# Altium integrated library Renesas Diode.IntLib: 1609 symbols (part 25 of 31)
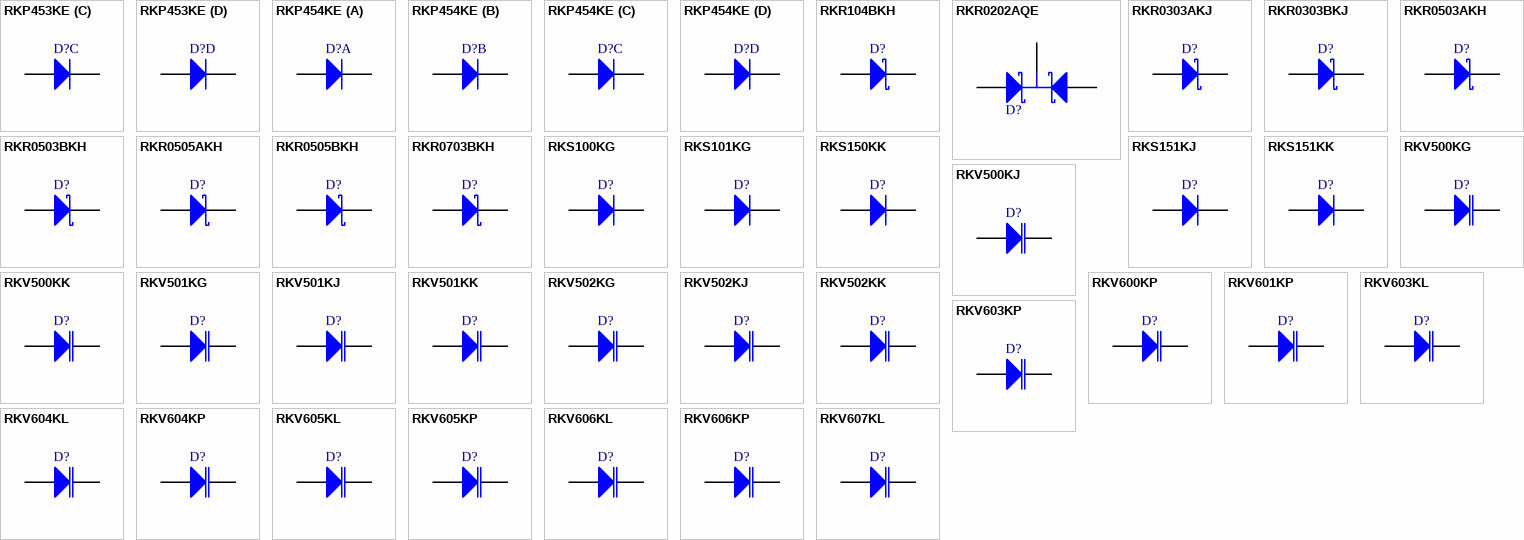
[diagram p69: symbols RKP453KE to RKV607KL]

## RKS100KG
designator D?
Silicon Epitaxial Planar Diode for High Speed Switching; Published: 12-Feb-2010; DatasheetVersion: Rev.1.00, Jul-2008; PackageVersion: Sep-2005; PackageReference: PTSP0002ZA-A; Publisher: Altium Limited; PackageDescription: 2-Pin SC-76 Package, 1.7 x 1.3 mm Body; Code_JEITA: SC-76A; ComponentLink1Description: Manufacturer Link; ComponentLink1URL: http://sg.renesas.com/fmwk.jsp?cnt=diode_landing.jsp&fp=/products/discrete/diodes/; ComponentLink2Description: Datasheet; ComponentLink2URL: http://documentation.renesas.com/eng/products/diode/rej03g1698_rks100kgds.pdf; ComponentLink3Description: Packaging Specification; ComponentLink3URL: http://sg.renesas.com/media/products/common_info/package/pdf/diode/code/ptsp0002za_a.pdf
footprint PTSP0002ZA-A (SC-76; 2 Leads; Body 1.7x1.3mm, Renesas Recommended)
signal-integrity model RKS100KG
pins: 1 K, 2 A

## RKS101KG
designator D?
Silicon Epitaxial Planar Diode for High Voltage Switching; Published: 12-Feb-2010; DatasheetVersion: Rev.1.00, Nov-2008; PackageVersion: Sep-2005; PackageReference: PTSP0002ZA-A; Publisher: Altium Limited; PackageDescription: 2-Pin SC-76 Package, 1.7 x 1.3 mm Body; Code_JEITA: SC-76A; ComponentLink1Description: Manufacturer Link; ComponentLink1URL: http://sg.renesas.com/fmwk.jsp?cnt=diode_landing.jsp&fp=/products/discrete/diodes/; ComponentLink2Description: Datasheet; ComponentLink2URL: http://documentation.renesas.com/eng/products/diode/rej03g1758_rks101kgds.pdf; ComponentLink3Description: Packaging Specification; ComponentLink3URL: http://sg.renesas.com/media/products/common_info/package/pdf/diode/code/ptsp0002za_a.pdf
footprint PTSP0002ZA-A (SC-76; 2 Leads; Body 1.7x1.3mm, Renesas Recommended)
signal-integrity model RKS101KG
pins: 1 K, 2 A

## RKS150KK
designator D?
Silicon Epitaxial Planar Diode for UHF/VHF tuner Band Switch; Published: 12-Feb-2010; DatasheetVersion: Rev.1.00, Nov-2005; PackageVersion: Oct-2006; PackageReference: PUSF0002ZB-A; Publisher: Altium Limited; PackageDescription: 2-Pin Plastic Small Outline Diode, Flat Leads, Body 0.6 x 1.0 mm (SFP); ComponentLink1Description: Manufacturer Link; ComponentLink1URL: http://sg.renesas.com/fmwk.jsp?cnt=diode_landing.jsp&fp=/products/discrete/diodes/; ComponentLink2Description: Datasheet; ComponentLink2URL: http://documentation.renesas.com/eng/products/logic/rej03g1292_rks150kk.pdf; ComponentLink3Description: Packaging Specification; ComponentLink3URL: http://sg.renesas.com/media/products/common_info/package/pdf/diode/code/pusf0002zb_a.pdf
footprint PUSF0002ZB-A (SOD, 2-Flat Leads, Body 0.6x1.0x0.55mm, Renesas Recommended)
signal-integrity model RKS150KK
pins: 1 K, 2 A

## RKS151KJ
designator D?
Silicon Epitaxial Planar Diode for UHF/VHF tuner Band Switch; Published: 12-Feb-2010; DatasheetVersion: Rev.1.00, Nov-2005; PackageVersion: Oct-2006; PackageReference: PWSF0002ZA-A; Publisher: Altium Limited; PackageDescription: 2-Pin Plastic Small Outline Diode, Flat Leads, Body 0.8 x 1.2 mm (UFP); Code_JEITA: SC-79; ComponentLink1Description: Manufacturer Link; ComponentLink1URL: http://sg.renesas.com/fmwk.jsp?cnt=diode_landing.jsp&fp=/products/discrete/diodes/; ComponentLink2Description: Datasheet; ComponentLink2URL: http://documentation.renesas.com/eng/products/logic/rej03g1296_rks151kj.pdf; ComponentLink3Description: Packaging Specification; ComponentLink3URL: http://sg.renesas.com/media/products/common_info/package/pdf/diode/code/pwsf0002za_a.pdf
footprint PWSF0002ZA-A (SOD, 2-Flat Leads, Body 0.8x1.2x0.7mm, Renesas Recommended)
signal-integrity model RKS151KJ
pins: 1 K, 2 A

## RKS151KK
designator D?
Silicon Epitaxial Planar Diode for UHF/VHF tuner Band Switch; Published: 12-Feb-2010; DatasheetVersion: Rev.1.00, Nov-2005; PackageVersion: Oct-2006; PackageReference: PUSF0002ZB-A; Publisher: Altium Limited; PackageDescription: 2-Pin Plastic Small Outline Diode, Flat Leads, Body 0.6 x 1.0 mm (SFP); ComponentLink1Description: Manufacturer Link; ComponentLink1URL: http://sg.renesas.com/fmwk.jsp?cnt=diode_landing.jsp&fp=/products/discrete/diodes/; ComponentLink2Description: Datasheet; ComponentLink2URL: http://documentation.renesas.com/eng/products/logic/rej03g1295_rks151kk.pdf; ComponentLink3Description: Packaging Specification; ComponentLink3URL: http://sg.renesas.com/media/products/common_info/package/pdf/diode/code/pusf0002zb_a.pdf
footprint PUSF0002ZB-A (SOD, 2-Flat Leads, Body 0.6x1.0x0.55mm, Renesas Recommended)
signal-integrity model RKS151KK
pins: 1 K, 2 A

## RKV500KG
designator D?
Variable Capacitance Diode for UHF/VHF tuner; Published: 12-Feb-2010; DatasheetVersion: Rev.1.00, Apr-2005; PackageVersion: Sep-2005; PackageReference: PTSP0002ZA-A; Publisher: Altium Limited; PackageDescription: 2-Pin SC-76 Package, 1.7 x 1.3 mm Body; Code_JEITA: SC-76A; ComponentLink1Description: Manufacturer Link; ComponentLink1URL: http://sg.renesas.com/fmwk.jsp?cnt=diode_landing.jsp&fp=/products/discrete/diodes/; ComponentLink2Description: Datasheet; ComponentLink2URL: http://documentation.renesas.com/eng/products/diode/rej03g0622_rkv500kg.pdf; ComponentLink3Description: Packaging Specification; ComponentLink3URL: http://sg.renesas.com/media/products/common_info/package/pdf/diode/code/ptsp0002za_a.pdf
footprint PTSP0002ZA-A (SC-76; 2 Leads; Body 1.7x1.3mm, Renesas Recommended)
signal-integrity model RKV500KG
pins: 1 K, 2 A

## RKV500KJ
designator D?
Variable Capacitance Diode for UHF/VHF tuner; Published: 12-Feb-2010; DatasheetVersion: Rev.1.00, Apr-2005; PackageVersion: Oct-2006; PackageReference: PWSF0002ZA-A; Publisher: Altium Limited; PackageDescription: 2-Pin Plastic Small Outline Diode, Flat Leads, Body 0.8 x 1.2 mm (UFP); Code_JEITA: SC-79; ComponentLink1Description: Manufacturer Link; ComponentLink1URL: http://sg.renesas.com/fmwk.jsp?cnt=diode_landing.jsp&fp=/products/discrete/diodes/; ComponentLink2Description: Datasheet; ComponentLink2URL: http://documentation.renesas.com/eng/products/diode/rej03g0621_rkv500kj.pdf; ComponentLink3Description: Packaging Specification; ComponentLink3URL: http://sg.renesas.com/media/products/common_info/package/pdf/diode/code/pwsf0002za_a.pdf
footprint PWSF0002ZA-A (SOD, 2-Flat Leads, Body 0.8x1.2x0.7mm, Renesas Recommended)
signal-integrity model RKV500KJ
pins: 1 K, 2 A

## RKV500KK
designator D?
Variable Capacitance Diode for UHF/VHF tuner; Published: 12-Feb-2010; DatasheetVersion: Rev.1.00, Oct-2005; PackageVersion: Oct-2006; PackageReference: PUSF0002ZB-A; Publisher: Altium Limited; PackageDescription: 2-Pin Plastic Small Outline Diode, Flat Leads, Body 0.6 x 1.0 mm (SFP); ComponentLink1Description: Manufacturer Link; ComponentLink1URL: http://sg.renesas.com/fmwk.jsp?cnt=diode_landing.jsp&fp=/products/discrete/diodes/; ComponentLink2Description: Datasheet; ComponentLink2URL: http://documentation.renesas.com/eng/products/diode/rej03g1279_rkv500kk.pdf; ComponentLink3Description: Packaging Specification; ComponentLink3URL: http://sg.renesas.com/media/products/common_info/package/pdf/diode/code/pusf0002zb_a.pdf
footprint PUSF0002ZB-A (SOD, 2-Flat Leads, Body 0.6x1.0x0.55mm, Renesas Recommended)
signal-integrity model RKV500KK
pins: 1 K, 2 A

## RKV501KG
designator D?
Variable Capacitance Diode for VHF tuner; Published: 12-Feb-2010; DatasheetVersion: Rev.1.00, Oct-2005; PackageVersion: Sep-2005; PackageReference: PTSP0002ZA-A; Publisher: Altium Limited; PackageDescription: 2-Pin SC-76 Package, 1.7 x 1.3 mm Body; Code_JEITA: SC-76A; ComponentLink1Description: Manufacturer Link; ComponentLink1URL: http://sg.renesas.com/fmwk.jsp?cnt=diode_landing.jsp&fp=/products/discrete/diodes/; ComponentLink2Description: Datasheet; ComponentLink2URL: http://documentation.renesas.com/eng/products/diode/rej03g1282_rkv501kg.pdf; ComponentLink3Description: Packaging Specification; ComponentLink3URL: http://sg.renesas.com/media/products/common_info/package/pdf/diode/code/ptsp0002za_a.pdf
footprint PTSP0002ZA-A (SC-76; 2 Leads; Body 1.7x1.3mm, Renesas Recommended)
signal-integrity model RKV501KG
pins: 1 K, 2 A

## RKV501KJ
designator D?
Variable Capacitance Diode for VHF tuner; Published: 12-Feb-2010; DatasheetVersion: Rev.1.00, Oct-2005; PackageVersion: Oct-2006; PackageReference: PWSF0002ZA-A; Publisher: Altium Limited; PackageDescription: 2-Pin Plastic Small Outline Diode, Flat Leads, Body 0.8 x 1.2 mm (UFP); Code_JEITA: SC-79; ComponentLink1Description: Manufacturer Link; ComponentLink1URL: http://sg.renesas.com/fmwk.jsp?cnt=diode_landing.jsp&fp=/products/discrete/diodes/; ComponentLink2Description: Datasheet; ComponentLink2URL: http://documentation.renesas.com/eng/products/diode/rej03g1281_rkv501kj.pdf; ComponentLink3Description: Packaging Specification; ComponentLink3URL: http://sg.renesas.com/media/products/common_info/package/pdf/diode/code/pwsf0002za_a.pdf
footprint PWSF0002ZA-A (SOD, 2-Flat Leads, Body 0.8x1.2x0.7mm, Renesas Recommended)
signal-integrity model RKV501KJ
pins: 1 K, 2 A

## RKV501KK
designator D?
Variable Capacitance Diode for VHF tuner; Published: 12-Feb-2010; DatasheetVersion: Rev.1.00, Oct-2005; PackageVersion: Oct-2006; PackageReference: PUSF0002ZB-A; Publisher: Altium Limited; PackageDescription: 2-Pin Plastic Small Outline Diode, Flat Leads, Body 0.6 x 1.0 mm (SFP); ComponentLink1Description: Manufacturer Link; ComponentLink1URL: http://sg.renesas.com/fmwk.jsp?cnt=diode_landing.jsp&fp=/products/discrete/diodes/; ComponentLink2Description: Datasheet; ComponentLink2URL: http://documentation.renesas.com/eng/products/diode/rej03g1280_rkv501kk.pdf; ComponentLink3Description: Packaging Specification; ComponentLink3URL: http://sg.renesas.com/media/products/common_info/package/pdf/diode/code/pusf0002zb_a.pdf
footprint PUSF0002ZB-A (SOD, 2-Flat Leads, Body 0.6x1.0x0.55mm, Renesas Recommended)
signal-integrity model RKV501KK
pins: 1 K, 2 A

## RKV502KG
designator D?
Variable Capacitance Diode for VHF tuner; Published: 12-Feb-2010; DatasheetVersion: Rev.1.00, Oct-2005; PackageVersion: Sep-2005; PackageReference: PTSP0002ZA-A; Publisher: Altium Limited; PackageDescription: 2-Pin SC-76 Package, 1.7 x 1.3 mm Body; Code_JEITA: SC-76A; ComponentLink1Description: Manufacturer Link; ComponentLink1URL: http://sg.renesas.com/fmwk.jsp?cnt=diode_landing.jsp&fp=/products/discrete/diodes/; ComponentLink2Description: Datasheet; ComponentLink2URL: http://documentation.renesas.com/eng/products/diode/rej03g1285_rkv502kg.pdf; ComponentLink3Description: Packaging Specification; ComponentLink3URL: http://sg.renesas.com/media/products/common_info/package/pdf/diode/code/ptsp0002za_a.pdf
footprint PTSP0002ZA-A (SC-76; 2 Leads; Body 1.7x1.3mm, Renesas Recommended)
signal-integrity model RKV502KG
pins: 1 K, 2 A

## RKV502KJ
designator D?
Variable Capacitance Diode for VHF tuner; Published: 12-Feb-2010; DatasheetVersion: Rev.1.00, Oct-2005; PackageVersion: Oct-2006; PackageReference: PWSF0002ZA-A; Publisher: Altium Limited; PackageDescription: 2-Pin Plastic Small Outline Diode, Flat Leads, Body 0.8 x 1.2 mm (UFP); Code_JEITA: SC-79; ComponentLink1Description: Manufacturer Link; ComponentLink1URL: http://sg.renesas.com/fmwk.jsp?cnt=diode_landing.jsp&fp=/products/discrete/diodes/; ComponentLink2Description: Datasheet; ComponentLink2URL: http://documentation.renesas.com/eng/products/diode/rej03g1284_rkv502kj.pdf; ComponentLink3Description: Packaging Specification; ComponentLink3URL: http://sg.renesas.com/media/products/common_info/package/pdf/diode/code/pwsf0002za_a.pdf
footprint PWSF0002ZA-A (SOD, 2-Flat Leads, Body 0.8x1.2x0.7mm, Renesas Recommended)
signal-integrity model RKV502KJ
pins: 1 K, 2 A

## RKV502KK
designator D?
Variable Capacitance Diode for VHF tuner; Published: 12-Feb-2010; DatasheetVersion: Rev.1.00, Oct-2005; PackageVersion: Oct-2006; PackageReference: PUSF0002ZB-A; Publisher: Altium Limited; PackageDescription: 2-Pin Plastic Small Outline Diode, Flat Leads, Body 0.6 x 1.0 mm (SFP); ComponentLink1Description: Manufacturer Link; ComponentLink1URL: http://sg.renesas.com/fmwk.jsp?cnt=diode_landing.jsp&fp=/products/discrete/diodes/; ComponentLink2Description: Datasheet; ComponentLink2URL: http://documentation.renesas.com/eng/products/diode/rej03g1283_rkv502kk.pdf; ComponentLink3Description: Packaging Specification; ComponentLink3URL: http://sg.renesas.com/media/products/common_info/package/pdf/diode/code/pusf0002zb_a.pdf
footprint PUSF0002ZB-A (SOD, 2-Flat Leads, Body 0.6x1.0x0.55mm, Renesas Recommended)
signal-integrity model RKV502KK
pins: 1 K, 2 A

## RKV600KP
designator D?
Variable Capacitance Diode for VCO; Published: 12-Feb-2010; DatasheetVersion: Rev.2.00, Feb-2007; PackageVersion: Jul-2006; PackageReference: PXSN0002ZB-A; Publisher: Altium Limited; PackageDescription: Chip Diode 0201 Case Size; ComponentLink1Description: Manufacturer Link; ComponentLink1URL: http://sg.renesas.com/fmwk.jsp?cnt=diode_landing.jsp&fp=/products/discrete/diodes/; ComponentLink2Description: Datasheet; ComponentLink2URL: http://documentation.renesas.com/eng/products/transistor/rej03g1306_rkv600kp.pdf; ComponentLink3Description: Packaging Specification; ComponentLink3URL: http://sg.renesas.com/media/products/common_info/package/pdf/diode/code/pxsn0002zb_a.pdf
footprint PXSN0002ZB-A_V (Chip Diode; Body 0.62x0.32mm, Renesas Recommended)
footprint PXSN0002ZB-A_N (Chip Diode; Body 0.62x0.32mm, IPC Medium Density)
footprint PXSN0002ZB-A_L (Chip Diode; Body 0.62x0.32mm, IPC High Density)
footprint PXSN0002ZB-A_M (Chip Diode; Body 0.62x0.32mm, IPC Low Density)
signal-integrity model RKV600KP
pins: 1 K, 2 A

## RKV601KP
designator D?
Variable Capacitance Diode for VCO; Published: 12-Feb-2010; DatasheetVersion: Rev.2.00, Feb-2007; PackageVersion: Jul-2006; PackageReference: PXSN0002ZB-A; Publisher: Altium Limited; PackageDescription: Chip Diode 0201 Case Size; ComponentLink1Description: Manufacturer Link; ComponentLink1URL: http://sg.renesas.com/fmwk.jsp?cnt=diode_landing.jsp&fp=/products/discrete/diodes/; ComponentLink2Description: Datasheet; ComponentLink2URL: http://documentation.renesas.com/eng/products/diode/rej03g1307_rkv601kp.pdf; ComponentLink3Description: Packaging Specification; ComponentLink3URL: http://sg.renesas.com/media/products/common_info/package/pdf/diode/code/pxsn0002zb_a.pdf
footprint PXSN0002ZB-A_V (Chip Diode; Body 0.62x0.32mm, Renesas Recommended)
footprint PXSN0002ZB-A_N (Chip Diode; Body 0.62x0.32mm, IPC Medium Density)
footprint PXSN0002ZB-A_L (Chip Diode; Body 0.62x0.32mm, IPC High Density)
footprint PXSN0002ZB-A_M (Chip Diode; Body 0.62x0.32mm, IPC Low Density)
signal-integrity model RKV601KP
pins: 1 K, 2 A

## RKV603KL
designator D?
Variable Capacitance Diode for VCO; Published: 12-Feb-2010; DatasheetVersion: Rev.1.00, Apr-2006; PackageVersion: Oct-2006; PackageReference: PXSF0002ZA-A; Publisher: Altium Limited; PackageDescription: 2-Pin Plastic Small Outline Diode, Flat Leads, Body 0.6 x 0.8 mm (EFP); ComponentLink1Description: Manufacturer Link; ComponentLink1URL: http://sg.renesas.com/fmwk.jsp?cnt=diode_landing.jsp&fp=/products/discrete/diodes/; ComponentLink2Description: Datasheet; ComponentLink2URL: http://documentation.renesas.com/eng/products/diode/rej03g1361_rkv603kl.pdf; ComponentLink3Description: Packaging Specification; ComponentLink3URL: http://sg.renesas.com/media/products/common_info/package/pdf/diode/code/pxsf0002za_a.pdf
footprint PXSF0002ZA-A (SOD, 2-Flat Leads, Body 0.6x0.8x0.5mm, Renesas Recommended)
signal-integrity model RKV603KL
pins: 1 K, 2 A

## RKV603KP
designator D?
Variable Capacitance Diode for VCO; Published: 12-Feb-2010; DatasheetVersion: Rev.2.00, Feb-2007; PackageVersion: Jul-2006; PackageReference: PXSN0002ZB-A; Publisher: Altium Limited; PackageDescription: Chip Diode 0201 Case Size; ComponentLink1Description: Manufacturer Link; ComponentLink1URL: http://sg.renesas.com/fmwk.jsp?cnt=diode_landing.jsp&fp=/products/discrete/diodes/; ComponentLink2Description: Datasheet; ComponentLink2URL: http://documentation.renesas.com/eng/products/diode/rej03g1362_rkv603kp.pdf; ComponentLink3Description: Packaging Specification; ComponentLink3URL: http://sg.renesas.com/media/products/common_info/package/pdf/diode/code/pxsn0002zb_a.pdf
footprint PXSN0002ZB-A_V (Chip Diode; Body 0.62x0.32mm, Renesas Recommended)
footprint PXSN0002ZB-A_N (Chip Diode; Body 0.62x0.32mm, IPC Medium Density)
footprint PXSN0002ZB-A_L (Chip Diode; Body 0.62x0.32mm, IPC High Density)
footprint PXSN0002ZB-A_M (Chip Diode; Body 0.62x0.32mm, IPC Low Density)
signal-integrity model RKV603KP
pins: 1 K, 2 A

## RKV604KL
designator D?
Variable Capacitance Diode for VCO; Published: 12-Feb-2010; DatasheetVersion: Rev.1.00, Apr-2006; PackageVersion: Oct-2006; PackageReference: PXSF0002ZA-A; Publisher: Altium Limited; PackageDescription: 2-Pin Plastic Small Outline Diode, Flat Leads, Body 0.6 x 0.8 mm (EFP); ComponentLink1Description: Manufacturer Link; ComponentLink1URL: http://sg.renesas.com/fmwk.jsp?cnt=diode_landing.jsp&fp=/products/discrete/diodes/; ComponentLink2Description: Datasheet; ComponentLink2URL: http://documentation.renesas.com/eng/products/diode/rej03g1363_rkv604kl.pdf; ComponentLink3Description: Packaging Specification; ComponentLink3URL: http://sg.renesas.com/media/products/common_info/package/pdf/diode/code/pxsf0002za_a.pdf
footprint PXSF0002ZA-A (SOD, 2-Flat Leads, Body 0.6x0.8x0.5mm, Renesas Recommended)
signal-integrity model RKV604KL
pins: 1 K, 2 A

## RKV604KP
designator D?
Variable Capacitance Diode for VCO; Published: 12-Feb-2010; DatasheetVersion: Rev.2.00, Feb-2007; PackageVersion: Jul-2006; PackageReference: PXSN0002ZB-A; Publisher: Altium Limited; PackageDescription: Chip Diode 0201 Case Size; ComponentLink1Description: Manufacturer Link; ComponentLink1URL: http://sg.renesas.com/fmwk.jsp?cnt=diode_landing.jsp&fp=/products/discrete/diodes/; ComponentLink2Description: Datasheet; ComponentLink2URL: http://documentation.renesas.com/eng/products/diode/rej03g1364_rkv604kp.pdf; ComponentLink3Description: Packaging Specification; ComponentLink3URL: http://sg.renesas.com/media/products/common_info/package/pdf/diode/code/pxsn0002zb_a.pdf
footprint PXSN0002ZB-A_V (Chip Diode; Body 0.62x0.32mm, Renesas Recommended)
footprint PXSN0002ZB-A_N (Chip Diode; Body 0.62x0.32mm, IPC Medium Density)
footprint PXSN0002ZB-A_L (Chip Diode; Body 0.62x0.32mm, IPC High Density)
footprint PXSN0002ZB-A_M (Chip Diode; Body 0.62x0.32mm, IPC Low Density)
signal-integrity model RKV604KP
pins: 1 K, 2 A

## RKV605KL
designator D?
Variable Capacitance Diode for VCO; Published: 12-Feb-2010; DatasheetVersion: Rev.1.00, Apr-2006; PackageVersion: Oct-2006; PackageReference: PXSF0002ZA-A; Publisher: Altium Limited; PackageDescription: 2-Pin Plastic Small Outline Diode, Flat Leads, Body 0.6 x 0.8 mm (EFP); ComponentLink1Description: Manufacturer Link; ComponentLink1URL: http://sg.renesas.com/fmwk.jsp?cnt=diode_landing.jsp&fp=/products/discrete/diodes/; ComponentLink2Description: Datasheet; ComponentLink2URL: http://documentation.renesas.com/eng/products/diode/rej03g1365_rkv605kl.pdf; ComponentLink3Description: Packaging Specification; ComponentLink3URL: http://sg.renesas.com/media/products/common_info/package/pdf/diode/code/pxsf0002za_a.pdf
footprint PXSF0002ZA-A (SOD, 2-Flat Leads, Body 0.6x0.8x0.5mm, Renesas Recommended)
signal-integrity model RKV605KL
pins: 1 K, 2 A

## RKV605KP
designator D?
Variable Capacitance Diode for VCO; Published: 12-Feb-2010; DatasheetVersion: Rev.2.00, Feb-2007; PackageVersion: Jul-2006; PackageReference: PXSN0002ZB-A; Publisher: Altium Limited; PackageDescription: Chip Diode 0201 Case Size; ComponentLink1Description: Manufacturer Link; ComponentLink1URL: http://sg.renesas.com/fmwk.jsp?cnt=diode_landing.jsp&fp=/products/discrete/diodes/; ComponentLink2Description: Datasheet; ComponentLink2URL: http://documentation.renesas.com/eng/products/diode/rej03g1366_rkv605kp.pdf; ComponentLink3Description: Packaging Specification; ComponentLink3URL: http://sg.renesas.com/media/products/common_info/package/pdf/diode/code/pxsn0002zb_a.pdf
footprint PXSN0002ZB-A_V (Chip Diode; Body 0.62x0.32mm, Renesas Recommended)
footprint PXSN0002ZB-A_N (Chip Diode; Body 0.62x0.32mm, IPC Medium Density)
footprint PXSN0002ZB-A_L (Chip Diode; Body 0.62x0.32mm, IPC High Density)
footprint PXSN0002ZB-A_M (Chip Diode; Body 0.62x0.32mm, IPC Low Density)
signal-integrity model RKV605KP
pins: 1 K, 2 A

## RKV606KL
designator D?
Variable Capacitance Diode for VCO; Published: 12-Feb-2010; DatasheetVersion: Rev.1.00, Dec-2007; PackageVersion: Oct-2006; PackageReference: PXSF0002ZA-A; Publisher: Altium Limited; PackageDescription: 2-Pin Plastic Small Outline Diode, Flat Leads, Body 0.6 x 0.8 mm (EFP); ComponentLink1Description: Manufacturer Link; ComponentLink1URL: http://sg.renesas.com/fmwk.jsp?cnt=diode_landing.jsp&fp=/products/discrete/diodes/; ComponentLink2Description: Datasheet; ComponentLink2URL: http://documentation.renesas.com/eng/products/diode/rej03g1522_rkv606klds.pdf; ComponentLink3Description: Packaging Specification; ComponentLink3URL: http://sg.renesas.com/media/products/common_info/package/pdf/diode/code/pxsf0002za_a.pdf
footprint PXSF0002ZA-A (SOD, 2-Flat Leads, Body 0.6x0.8x0.5mm, Renesas Recommended)
signal-integrity model RKV606KL
pins: 1 K, 2 A

## RKV606KP
designator D?
Variable Capacitance Diode for VCO; Published: 12-Feb-2010; DatasheetVersion: Rev.1.00, Dec-2007; PackageVersion: Jul-2006; PackageReference: PXSN0002ZB-A; Publisher: Altium Limited; PackageDescription: Chip Diode 0201 Case Size; ComponentLink1Description: Manufacturer Link; ComponentLink1URL: http://sg.renesas.com/fmwk.jsp?cnt=diode_landing.jsp&fp=/products/discrete/diodes/; ComponentLink2Description: Datasheet; ComponentLink2URL: http://documentation.renesas.com/eng/products/diode/rej03g1523_rkv606kpds.pdf; ComponentLink3Description: Packaging Specification; ComponentLink3URL: http://sg.renesas.com/media/products/common_info/package/pdf/diode/code/pxsn0002zb_a.pdf
footprint PXSN0002ZB-A_V (Chip Diode; Body 0.62x0.32mm, Renesas Recommended)
footprint PXSN0002ZB-A_N (Chip Diode; Body 0.62x0.32mm, IPC Medium Density)
footprint PXSN0002ZB-A_L (Chip Diode; Body 0.62x0.32mm, IPC High Density)
footprint PXSN0002ZB-A_M (Chip Diode; Body 0.62x0.32mm, IPC Low Density)
signal-integrity model RKV606KP
pins: 1 K, 2 A

## RKV607KL
designator D?
Variable Capacitance Diode for VCO; Published: 12-Feb-2010; DatasheetVersion: Rev.1.00, Dec-2007; PackageVersion: Oct-2006; PackageReference: PXSF0002ZA-A; Publisher: Altium Limited; PackageDescription: 2-Pin Plastic Small Outline Diode, Flat Leads, Body 0.6 x 0.8 mm (EFP); ComponentLink1Description: Manufacturer Link; ComponentLink1URL: http://sg.renesas.com/fmwk.jsp?cnt=diode_landing.jsp&fp=/products/discrete/diodes/; ComponentLink2Description: Datasheet; ComponentLink2URL: http://documentation.renesas.com/eng/products/diode/rej03g1477_rkv607klds.pdf; ComponentLink3Description: Packaging Specification; ComponentLink3URL: http://sg.renesas.com/media/products/common_info/package/pdf/diode/code/pxsf0002za_a.pdf
footprint PXSF0002ZA-A (SOD, 2-Flat Leads, Body 0.6x0.8x0.5mm, Renesas Recommended)
signal-integrity model RKV607KL
pins: 1 K, 2 A

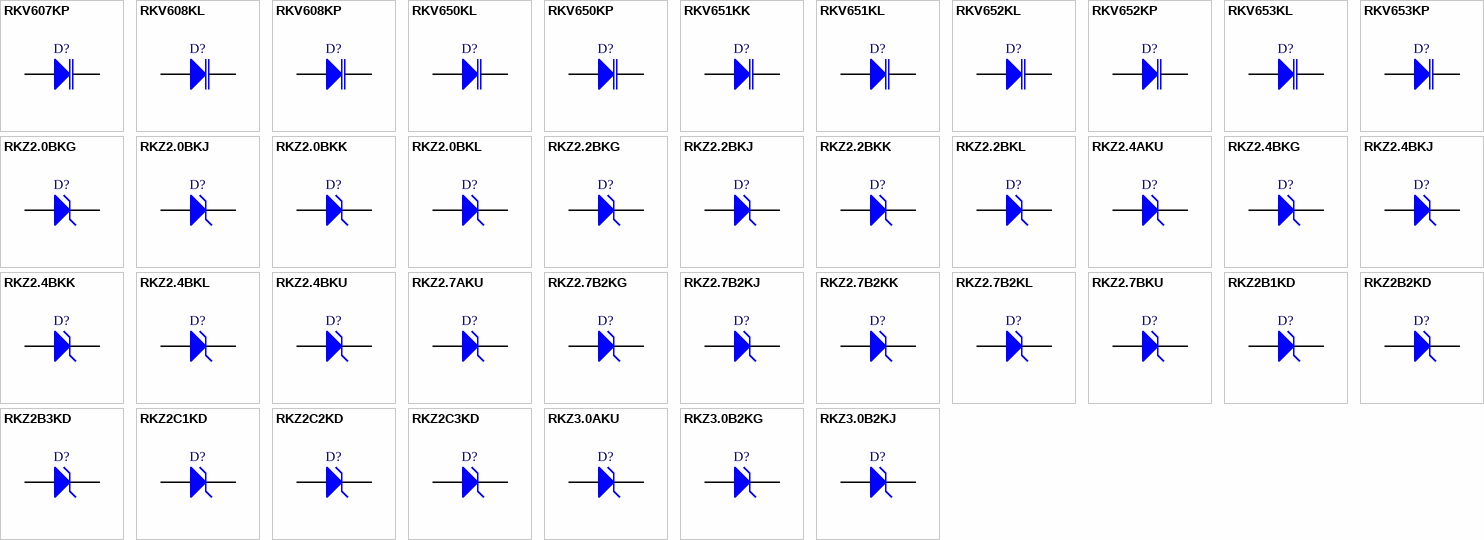
[diagram p37: symbols RKV607KP to RKZ3.0B2KJ]

## RKV607KP
designator D?
Variable Capacitance Diode for VCO; Published: 12-Feb-2010; DatasheetVersion: Rev.1.00, Dec-2007; PackageVersion: Jul-2006; PackageReference: PXSN0002ZB-A; Publisher: Altium Limited; PackageDescription: Chip Diode 0201 Case Size; ComponentLink1Description: Manufacturer Link; ComponentLink1URL: http://sg.renesas.com/fmwk.jsp?cnt=diode_landing.jsp&fp=/products/discrete/diodes/; ComponentLink2Description: Datasheet; ComponentLink2URL: http://documentation.renesas.com/eng/products/diode/rej03g1478_rkv607kpds.pdf; ComponentLink3Description: Packaging Specification; ComponentLink3URL: http://sg.renesas.com/media/products/common_info/package/pdf/diode/code/pxsn0002zb_a.pdf
footprint PXSN0002ZB-A_V (Chip Diode; Body 0.62x0.32mm, Renesas Recommended)
footprint PXSN0002ZB-A_N (Chip Diode; Body 0.62x0.32mm, IPC Medium Density)
footprint PXSN0002ZB-A_L (Chip Diode; Body 0.62x0.32mm, IPC High Density)
footprint PXSN0002ZB-A_M (Chip Diode; Body 0.62x0.32mm, IPC Low Density)
signal-integrity model RKV607KP
pins: 1 K, 2 A

## RKV608KL
designator D?
Variable Capacitance Diode for VCO; Published: 12-Feb-2010; DatasheetVersion: Rev.1.00, Dec-2007; PackageVersion: Oct-2006; PackageReference: PXSF0002ZA-A; Publisher: Altium Limited; PackageDescription: 2-Pin Plastic Small Outline Diode, Flat Leads, Body 0.6 x 0.8 mm (EFP); ComponentLink1Description: Manufacturer Link; ComponentLink1URL: http://sg.renesas.com/fmwk.jsp?cnt=diode_landing.jsp&fp=/products/discrete/diodes/; ComponentLink2Description: Datasheet; ComponentLink2URL: http://documentation.renesas.com/eng/products/diode/rej03g1524_rkv608klds.pdf; ComponentLink3Description: Packaging Specification; ComponentLink3URL: http://sg.renesas.com/media/products/common_info/package/pdf/diode/code/pxsf0002za_a.pdf
footprint PXSF0002ZA-A (SOD, 2-Flat Leads, Body 0.6x0.8x0.5mm, Renesas Recommended)
signal-integrity model RKV608KL
pins: 1 K, 2 A

## RKV608KP
designator D?
Variable Capacitance Diode for VCO; Published: 12-Feb-2010; DatasheetVersion: Rev.1.00, Dec-2007; PackageVersion: Jul-2006; PackageReference: PXSN0002ZB-A; Publisher: Altium Limited; PackageDescription: Chip Diode 0201 Case Size; ComponentLink1Description: Manufacturer Link; ComponentLink1URL: http://sg.renesas.com/fmwk.jsp?cnt=diode_landing.jsp&fp=/products/discrete/diodes/; ComponentLink2Description: Datasheet; ComponentLink2URL: http://documentation.renesas.com/eng/products/diode/rej03g1525_rkv608kpds.pdf; ComponentLink3Description: Packaging Specification; ComponentLink3URL: http://sg.renesas.com/media/products/common_info/package/pdf/diode/code/pxsn0002zb_a.pdf
footprint PXSN0002ZB-A_V (Chip Diode; Body 0.62x0.32mm, Renesas Recommended)
footprint PXSN0002ZB-A_N (Chip Diode; Body 0.62x0.32mm, IPC Medium Density)
footprint PXSN0002ZB-A_L (Chip Diode; Body 0.62x0.32mm, IPC High Density)
footprint PXSN0002ZB-A_M (Chip Diode; Body 0.62x0.32mm, IPC Low Density)
signal-integrity model RKV608KP
pins: 1 K, 2 A

## RKV650KL
designator D?
Variable Capacitance Diode; Published: 12-Feb-2010; DatasheetVersion: Rev.1.00, Oct-2005; PackageVersion: Oct-2006; PackageReference: PXSF0002ZA-A; Publisher: Altium Limited; PackageDescription: 2-Pin Plastic Small Outline Diode, Flat Leads, Body 0.6 x 0.8 mm (EFP); ComponentLink1Description: Manufacturer Link; ComponentLink1URL: http://sg.renesas.com/fmwk.jsp?cnt=diode_landing.jsp&fp=/products/discrete/diodes/; ComponentLink2Description: Datasheet; ComponentLink2URL: http://documentation.renesas.com/eng/products/diode/rej03g1286_rkv650kl.pdf; ComponentLink3Description: Packaging Specification; ComponentLink3URL: http://sg.renesas.com/media/products/common_info/package/pdf/diode/code/pxsf0002za_a.pdf
footprint PXSF0002ZA-A (SOD, 2-Flat Leads, Body 0.6x0.8x0.5mm, Renesas Recommended)
signal-integrity model RKV650KL
pins: 1 K, 2 A

## RKV650KP
designator D?
Variable Capacitance Diode for Digital audio; Published: 12-Feb-2010; DatasheetVersion: Rev.2.00, Feb-2007; PackageVersion: Jul-2006; PackageReference: PXSN0002ZB-A; Publisher: Altium Limited; PackageDescription: Chip Diode 0201 Case Size; ComponentLink1Description: Manufacturer Link; ComponentLink1URL: http://sg.renesas.com/fmwk.jsp?cnt=diode_landing.jsp&fp=/products/discrete/diodes/; ComponentLink2Description: Datasheet; ComponentLink2URL: http://documentation.renesas.com/eng/products/diode/rej03g1288_rkv650kp.pdf; ComponentLink3Description: Packaging Specification; ComponentLink3URL: http://sg.renesas.com/media/products/common_info/package/pdf/diode/code/pxsn0002zb_a.pdf
footprint PXSN0002ZB-A_V (Chip Diode; Body 0.62x0.32mm, Renesas Recommended)
footprint PXSN0002ZB-A_N (Chip Diode; Body 0.62x0.32mm, IPC Medium Density)
footprint PXSN0002ZB-A_L (Chip Diode; Body 0.62x0.32mm, IPC High Density)
footprint PXSN0002ZB-A_M (Chip Diode; Body 0.62x0.32mm, IPC Low Density)
signal-integrity model RKV650KP
pins: 1 K, 2 A

## RKV651KK
designator D?
Variable Capacitance Diode for FM tuner IC; Published: 12-Feb-2010; DatasheetVersion: Rev.1.00, Oct-2005; PackageVersion: Oct-2006; PackageReference: PUSF0002ZB-A; Publisher: Altium Limited; PackageDescription: 2-Pin Plastic Small Outline Diode, Flat Leads, Body 0.6 x 1.0 mm (SFP); ComponentLink1Description: Manufacturer Link; ComponentLink1URL: http://sg.renesas.com/fmwk.jsp?cnt=diode_landing.jsp&fp=/products/discrete/diodes/; ComponentLink2Description: Datasheet; ComponentLink2URL: http://documentation.renesas.com/eng/products/diode/rej03g1289_rkv651kk.pdf; ComponentLink3Description: Packaging Specification; ComponentLink3URL: http://sg.renesas.com/media/products/common_info/package/pdf/diode/code/pusf0002zb_a.pdf
footprint PUSF0002ZB-A (SOD, 2-Flat Leads, Body 0.6x1.0x0.55mm, Renesas Recommended)
signal-integrity model RKV651KK
pins: 1 K, 2 A

## RKV651KL
designator D?
Variable Capacitance Diode for FM tuner IC; Published: 12-Feb-2010; DatasheetVersion: Rev.1.00, Oct-2005; PackageVersion: Oct-2006; PackageReference: PXSF0002ZA-A; Publisher: Altium Limited; PackageDescription: 2-Pin Plastic Small Outline Diode, Flat Leads, Body 0.6 x 0.8 mm (EFP); ComponentLink1Description: Manufacturer Link; ComponentLink1URL: http://sg.renesas.com/fmwk.jsp?cnt=diode_landing.jsp&fp=/products/discrete/diodes/; ComponentLink2Description: Datasheet; ComponentLink2URL: http://documentation.renesas.com/eng/products/diode/rej03g1290_rkv651kl.pdf; ComponentLink3Description: Packaging Specification; ComponentLink3URL: http://sg.renesas.com/media/products/common_info/package/pdf/diode/code/pxsf0002za_a.pdf
footprint PXSF0002ZA-A (SOD, 2-Flat Leads, Body 0.6x0.8x0.5mm, Renesas Recommended)
signal-integrity model RKV651KL
pins: 1 K, 2 A

## RKV652KL
designator D?
Variable Capacitance Diode; Published: 12-Feb-2010; DatasheetVersion: Rev.1.00, Mar-2006; PackageVersion: Oct-2006; PackageReference: PXSF0002ZA-A; Publisher: Altium Limited; PackageDescription: 2-Pin Plastic Small Outline Diode, Flat Leads, Body 0.6 x 0.8 mm (EFP); ComponentLink1Description: Manufacturer Link; ComponentLink1URL: http://sg.renesas.com/fmwk.jsp?cnt=diode_landing.jsp&fp=/products/discrete/diodes/; ComponentLink2Description: Datasheet; ComponentLink2URL: http://documentation.renesas.com/eng/products/diode/rej03g1355_rkv652kl.pdf; ComponentLink3Description: Packaging Specification; ComponentLink3URL: http://sg.renesas.com/media/products/common_info/package/pdf/diode/code/pxsf0002za_a.pdf
footprint PXSF0002ZA-A (SOD, 2-Flat Leads, Body 0.6x0.8x0.5mm, Renesas Recommended)
signal-integrity model RKV652KL
pins: 1 K, 2 A

## RKV652KP
designator D?
Variable Capacitance Diode for Digital audio; Published: 12-Feb-2010; DatasheetVersion: Rev.2.00, Feb-2007; PackageVersion: Jul-2006; PackageReference: PXSN0002ZB-A; Publisher: Altium Limited; PackageDescription: Chip Diode 0201 Case Size; ComponentLink1Description: Manufacturer Link; ComponentLink1URL: http://sg.renesas.com/fmwk.jsp?cnt=diode_landing.jsp&fp=/products/discrete/diodes/; ComponentLink2Description: Datasheet; ComponentLink2URL: http://documentation.renesas.com/eng/products/diode/rej03g1356_rkv652kp.pdf; ComponentLink3Description: Packaging Specification; ComponentLink3URL: http://sg.renesas.com/media/products/common_info/package/pdf/diode/code/pxsn0002zb_a.pdf
footprint PXSN0002ZB-A_V (Chip Diode; Body 0.62x0.32mm, Renesas Recommended)
footprint PXSN0002ZB-A_N (Chip Diode; Body 0.62x0.32mm, IPC Medium Density)
footprint PXSN0002ZB-A_L (Chip Diode; Body 0.62x0.32mm, IPC High Density)
footprint PXSN0002ZB-A_M (Chip Diode; Body 0.62x0.32mm, IPC Low Density)
signal-integrity model RKV652KP
pins: 1 K, 2 A

## RKV653KL
designator D?
Variable Capacitance Diode for Digital audio; Published: 12-Feb-2010; DatasheetVersion: Rev.1.00, Jul-2006; PackageVersion: Oct-2006; PackageReference: PXSF0002ZA-A; Publisher: Altium Limited; PackageDescription: 2-Pin Plastic Small Outline Diode, Flat Leads, Body 0.6 x 0.8 mm (EFP); ComponentLink1Description: Manufacturer Link; ComponentLink1URL: http://sg.renesas.com/fmwk.jsp?cnt=diode_landing.jsp&fp=/products/discrete/diodes/; ComponentLink2Description: Datasheet; ComponentLink2URL: http://documentation.renesas.com/eng/products/diode/rej03g1357_rkv653kl.pdf; ComponentLink3Description: Packaging Specification; ComponentLink3URL: http://sg.renesas.com/media/products/common_info/package/pdf/diode/code/pxsf0002za_a.pdf
footprint PXSF0002ZA-A (SOD, 2-Flat Leads, Body 0.6x0.8x0.5mm, Renesas Recommended)
signal-integrity model RKV653KL
pins: 1 K, 2 A

## RKV653KP
designator D?
Variable Capacitance Diode for Digital audio; Published: 12-Feb-2010; DatasheetVersion: Rev.2.00, Feb-2007; PackageVersion: Jul-2006; PackageReference: PXSN0002ZB-A; Publisher: Altium Limited; PackageDescription: Chip Diode 0201 Case Size; ComponentLink1Description: Manufacturer Link; ComponentLink1URL: http://sg.renesas.com/fmwk.jsp?cnt=diode_landing.jsp&fp=/products/discrete/diodes/; ComponentLink2Description: Datasheet; ComponentLink2URL: http://documentation.renesas.com/eng/products/diode/rej03g1358_rkv653kp.pdf; ComponentLink3Description: Packaging Specification; ComponentLink3URL: http://sg.renesas.com/media/products/common_info/package/pdf/diode/code/pxsn0002zb_a.pdf
footprint PXSN0002ZB-A_V (Chip Diode; Body 0.62x0.32mm, Renesas Recommended)
footprint PXSN0002ZB-A_N (Chip Diode; Body 0.62x0.32mm, IPC Medium Density)
footprint PXSN0002ZB-A_L (Chip Diode; Body 0.62x0.32mm, IPC High Density)
footprint PXSN0002ZB-A_M (Chip Diode; Body 0.62x0.32mm, IPC Low Density)
signal-integrity model RKV653KP
pins: 1 K, 2 A

## RKZ2.0BKG
designator D?
Silicon Planar Zener Diode for Surge Absorption and Stabilizer; Published: 12-Feb-2010; DatasheetVersion: Rev.3.00, Feb-2009; PackageVersion: Sep-2005; PackageReference: PTSP0002ZA-A; Publisher: Altium Limited; PackageDescription: 2-Pin SC-76 Package, 1.7 x 1.3 mm Body; Code_JEITA: SC-76A; ComponentLink1Description: Manufacturer Link; ComponentLink1URL: http://sg.renesas.com/fmwk.jsp?cnt=diode_landing.jsp&fp=/products/discrete/diodes/; ComponentLink2Description: Datasheet; ComponentLink2URL: http://documentation.renesas.com/eng/products/diode/rej03g1512_rkz_kg.pdf; ComponentLink3Description: Packaging Specification; ComponentLink3URL: http://sg.renesas.com/media/products/common_info/package/pdf/diode/code/ptsp0002za_a.pdf
footprint PTSP0002ZA-A (SC-76; 2 Leads; Body 1.7x1.3mm, Renesas Recommended)
signal-integrity model RKZ2.0BKG
pins: 1 K, 2 A

## RKZ2.0BKJ
designator D?
Silicon Planar Zener Diode for Surge Absorption and Stabilizer; Published: 12-Feb-2010; DatasheetVersion: Rev.1.00, Sep-2007; PackageVersion: Oct-2006; PackageReference: PWSF0002ZA-A; Publisher: Altium Limited; PackageDescription: 2-Pin Plastic Small Outline Diode, Flat Leads, Body 0.8 x 1.2 mm (UFP); Code_JEITA: SC-79; ComponentLink1Description: Manufacturer Link; ComponentLink1URL: http://sg.renesas.com/fmwk.jsp?cnt=diode_landing.jsp&fp=/products/discrete/diodes/; ComponentLink2Description: Datasheet; ComponentLink2URL: http://documentation.renesas.com/eng/products/diode/rej03g1588_rkz_kjds.pdf; ComponentLink3Description: Packaging Specification; ComponentLink3URL: http://sg.renesas.com/media/products/common_info/package/pdf/diode/code/pwsf0002za_a.pdf
footprint PWSF0002ZA-A (SOD, 2-Flat Leads, Body 0.8x1.2x0.7mm, Renesas Recommended)
signal-integrity model RKZ2.0BKJ
pins: 1 K, 2 A

## RKZ2.0BKK
designator D?
Silicon Planar Zener Diode for Surge Absorption and Stabilizer; Published: 12-Feb-2010; DatasheetVersion: Rev.1.00, Mar-2007; PackageVersion: Oct-2006; PackageReference: PUSF0002ZB-A; Publisher: Altium Limited; PackageDescription: 2-Pin Plastic Small Outline Diode, Flat Leads, Body 0.6 x 1.0 mm (SFP); ComponentLink1Description: Manufacturer Link; ComponentLink1URL: http://sg.renesas.com/fmwk.jsp?cnt=diode_landing.jsp&fp=/products/discrete/diodes/; ComponentLink2Description: Datasheet; ComponentLink2URL: http://documentation.renesas.com/eng/products/diode/rej03g1518_rkz_kkds.pdf; ComponentLink3Description: Packaging Specification; ComponentLink3URL: http://sg.renesas.com/media/products/common_info/package/pdf/diode/code/pusf0002zb_a.pdf
footprint PUSF0002ZB-A (SOD, 2-Flat Leads, Body 0.6x1.0x0.55mm, Renesas Recommended)
signal-integrity model RKZ2.0BKK
pins: 1 K, 2 A

## RKZ2.0BKL
designator D?
Silicon Planar Zener Diode for Surge Absorption and Stabilizer; Published: 12-Feb-2010; DatasheetVersion: Rev.1.00, May-2007; PackageVersion: Oct-2006; PackageReference: PXSF0002ZA-A; Publisher: Altium Limited; PackageDescription: 2-Pin Plastic Small Outline Diode, Flat Leads, Body 0.6 x 0.8 mm (EFP); ComponentLink1Description: Manufacturer Link; ComponentLink1URL: http://sg.renesas.com/fmwk.jsp?cnt=diode_landing.jsp&fp=/products/discrete/diodes/; ComponentLink2Description: Datasheet; ComponentLink2URL: http://documentation.renesas.com/eng/products/diode/rej03g1519_rkz_klds.pdf; ComponentLink3Description: Packaging Specification; ComponentLink3URL: http://sg.renesas.com/media/products/common_info/package/pdf/diode/code/pxsf0002za_a.pdf
footprint PXSF0002ZA-A (SOD, 2-Flat Leads, Body 0.6x0.8x0.5mm, Renesas Recommended)
signal-integrity model RKZ2.0BKL
pins: 1 K, 2 A

## RKZ2.2BKG
designator D?
Silicon Planar Zener Diode for Surge Absorption and Stabilizer; Published: 12-Feb-2010; DatasheetVersion: Rev.3.00, Feb-2009; PackageVersion: Sep-2005; PackageReference: PTSP0002ZA-A; Publisher: Altium Limited; PackageDescription: 2-Pin SC-76 Package, 1.7 x 1.3 mm Body; Code_JEITA: SC-76A; ComponentLink1Description: Manufacturer Link; ComponentLink1URL: http://sg.renesas.com/fmwk.jsp?cnt=diode_landing.jsp&fp=/products/discrete/diodes/; ComponentLink2Description: Datasheet; ComponentLink2URL: http://documentation.renesas.com/eng/products/diode/rej03g1512_rkz_kg.pdf; ComponentLink3Description: Packaging Specification; ComponentLink3URL: http://sg.renesas.com/media/products/common_info/package/pdf/diode/code/ptsp0002za_a.pdf
footprint PTSP0002ZA-A (SC-76; 2 Leads; Body 1.7x1.3mm, Renesas Recommended)
signal-integrity model RKZ2.2BKG
pins: 1 K, 2 A

## RKZ2.2BKJ
designator D?
Silicon Planar Zener Diode for Surge Absorption and Stabilizer; Published: 12-Feb-2010; DatasheetVersion: Rev.1.00, Sep-2007; PackageVersion: Oct-2006; PackageReference: PWSF0002ZA-A; Publisher: Altium Limited; PackageDescription: 2-Pin Plastic Small Outline Diode, Flat Leads, Body 0.8 x 1.2 mm (UFP); Code_JEITA: SC-79; ComponentLink1Description: Manufacturer Link; ComponentLink1URL: http://sg.renesas.com/fmwk.jsp?cnt=diode_landing.jsp&fp=/products/discrete/diodes/; ComponentLink2Description: Datasheet; ComponentLink2URL: http://documentation.renesas.com/eng/products/diode/rej03g1588_rkz_kjds.pdf; ComponentLink3Description: Packaging Specification; ComponentLink3URL: http://sg.renesas.com/media/products/common_info/package/pdf/diode/code/pwsf0002za_a.pdf
footprint PWSF0002ZA-A (SOD, 2-Flat Leads, Body 0.8x1.2x0.7mm, Renesas Recommended)
signal-integrity model RKZ2.2BKJ
pins: 1 K, 2 A

## RKZ2.2BKK
designator D?
Silicon Planar Zener Diode for Surge Absorption and Stabilizer; Published: 12-Feb-2010; DatasheetVersion: Rev.1.00, Mar-2007; PackageVersion: Oct-2006; PackageReference: PUSF0002ZB-A; Publisher: Altium Limited; PackageDescription: 2-Pin Plastic Small Outline Diode, Flat Leads, Body 0.6 x 1.0 mm (SFP); ComponentLink1Description: Manufacturer Link; ComponentLink1URL: http://sg.renesas.com/fmwk.jsp?cnt=diode_landing.jsp&fp=/products/discrete/diodes/; ComponentLink2Description: Datasheet; ComponentLink2URL: http://documentation.renesas.com/eng/products/diode/rej03g1518_rkz_kkds.pdf; ComponentLink3Description: Packaging Specification; ComponentLink3URL: http://sg.renesas.com/media/products/common_info/package/pdf/diode/code/pusf0002zb_a.pdf
footprint PUSF0002ZB-A (SOD, 2-Flat Leads, Body 0.6x1.0x0.55mm, Renesas Recommended)
signal-integrity model RKZ2.2BKK
pins: 1 K, 2 A

## RKZ2.2BKL
designator D?
Silicon Planar Zener Diode for Surge Absorption and Stabilizer; Published: 12-Feb-2010; DatasheetVersion: Rev.1.00, May-2007; PackageVersion: Oct-2006; PackageReference: PXSF0002ZA-A; Publisher: Altium Limited; PackageDescription: 2-Pin Plastic Small Outline Diode, Flat Leads, Body 0.6 x 0.8 mm (EFP); ComponentLink1Description: Manufacturer Link; ComponentLink1URL: http://sg.renesas.com/fmwk.jsp?cnt=diode_landing.jsp&fp=/products/discrete/diodes/; ComponentLink2Description: Datasheet; ComponentLink2URL: http://documentation.renesas.com/eng/products/diode/rej03g1519_rkz_klds.pdf; ComponentLink3Description: Packaging Specification; ComponentLink3URL: http://sg.renesas.com/media/products/common_info/package/pdf/diode/code/pxsf0002za_a.pdf
footprint PXSF0002ZA-A (SOD, 2-Flat Leads, Body 0.6x0.8x0.5mm, Renesas Recommended)
signal-integrity model RKZ2.2BKL
pins: 1 K, 2 A

## RKZ2.4AKU
designator D?
Silicon Planar Zener Diode for Stabilized Power Supply; Published: 12-Feb-2010; DatasheetVersion: Rev.1.00, Jul-2009; PackageVersion: Jul-2009; PackageReference: PUSF0002ZD-A; Publisher: Altium Limited; PackageDescription: 2-Pin Plastic Small Outline Diode, Flat Leads, Body 1.3 x 1.9 mm (TURP-FM); ComponentLink1Description: Manufacturer Link; ComponentLink1URL: http://sg.renesas.com/fmwk.jsp?cnt=diode_landing.jsp&fp=/products/discrete/diodes/; ComponentLink2Description: Datasheet; ComponentLink2URL: http://documentation.renesas.com/eng/products/diode/rej03g1771_rkz_kuds.pdf; ComponentLink3Description: Packaging Specification; ComponentLink3URL: http://sg.renesas.com/media/products/common_info/package/pdf/diode/code/pusf0002zd_a.pdf
footprint PUSF0002ZD-A (SOD, 2-Flat Leads, Body 1.3x1.9x0.65mm, Renesas Recommended)
signal-integrity model RKZ2.4AKU
pins: 1 K, 2 A

## RKZ2.4BKG
designator D?
Silicon Planar Zener Diode for Surge Absorption and Stabilizer; Published: 12-Feb-2010; DatasheetVersion: Rev.3.00, Feb-2009; PackageVersion: Sep-2005; PackageReference: PTSP0002ZA-A; Publisher: Altium Limited; PackageDescription: 2-Pin SC-76 Package, 1.7 x 1.3 mm Body; Code_JEITA: SC-76A; ComponentLink1Description: Manufacturer Link; ComponentLink1URL: http://sg.renesas.com/fmwk.jsp?cnt=diode_landing.jsp&fp=/products/discrete/diodes/; ComponentLink2Description: Datasheet; ComponentLink2URL: http://documentation.renesas.com/eng/products/diode/rej03g1512_rkz_kg.pdf; ComponentLink3Description: Packaging Specification; ComponentLink3URL: http://sg.renesas.com/media/products/common_info/package/pdf/diode/code/ptsp0002za_a.pdf
footprint PTSP0002ZA-A (SC-76; 2 Leads; Body 1.7x1.3mm, Renesas Recommended)
signal-integrity model RKZ2.4BKG
pins: 1 K, 2 A

## RKZ2.4BKJ
designator D?
Silicon Planar Zener Diode for Surge Absorption and Stabilizer; Published: 12-Feb-2010; DatasheetVersion: Rev.1.00, Sep-2007; PackageVersion: Oct-2006; PackageReference: PWSF0002ZA-A; Publisher: Altium Limited; PackageDescription: 2-Pin Plastic Small Outline Diode, Flat Leads, Body 0.8 x 1.2 mm (UFP); Code_JEITA: SC-79; ComponentLink1Description: Manufacturer Link; ComponentLink1URL: http://sg.renesas.com/fmwk.jsp?cnt=diode_landing.jsp&fp=/products/discrete/diodes/; ComponentLink2Description: Datasheet; ComponentLink2URL: http://documentation.renesas.com/eng/products/diode/rej03g1588_rkz_kjds.pdf; ComponentLink3Description: Packaging Specification; ComponentLink3URL: http://sg.renesas.com/media/products/common_info/package/pdf/diode/code/pwsf0002za_a.pdf
footprint PWSF0002ZA-A (SOD, 2-Flat Leads, Body 0.8x1.2x0.7mm, Renesas Recommended)
signal-integrity model RKZ2.4BKJ
pins: 1 K, 2 A

## RKZ2.4BKK
designator D?
Silicon Planar Zener Diode for Surge Absorption and Stabilizer; Published: 12-Feb-2010; DatasheetVersion: Rev.1.00, Mar-2007; PackageVersion: Oct-2006; PackageReference: PUSF0002ZB-A; Publisher: Altium Limited; PackageDescription: 2-Pin Plastic Small Outline Diode, Flat Leads, Body 0.6 x 1.0 mm (SFP); ComponentLink1Description: Manufacturer Link; ComponentLink1URL: http://sg.renesas.com/fmwk.jsp?cnt=diode_landing.jsp&fp=/products/discrete/diodes/; ComponentLink2Description: Datasheet; ComponentLink2URL: http://documentation.renesas.com/eng/products/diode/rej03g1518_rkz_kkds.pdf; ComponentLink3Description: Packaging Specification; ComponentLink3URL: http://sg.renesas.com/media/products/common_info/package/pdf/diode/code/pusf0002zb_a.pdf
footprint PUSF0002ZB-A (SOD, 2-Flat Leads, Body 0.6x1.0x0.55mm, Renesas Recommended)
signal-integrity model RKZ2.4BKK
pins: 1 K, 2 A

## RKZ2.4BKL
designator D?
Silicon Planar Zener Diode for Surge Absorption and Stabilizer; Published: 12-Feb-2010; DatasheetVersion: Rev.1.00, May-2007; PackageVersion: Oct-2006; PackageReference: PXSF0002ZA-A; Publisher: Altium Limited; PackageDescription: 2-Pin Plastic Small Outline Diode, Flat Leads, Body 0.6 x 0.8 mm (EFP); ComponentLink1Description: Manufacturer Link; ComponentLink1URL: http://sg.renesas.com/fmwk.jsp?cnt=diode_landing.jsp&fp=/products/discrete/diodes/; ComponentLink2Description: Datasheet; ComponentLink2URL: http://documentation.renesas.com/eng/products/diode/rej03g1519_rkz_klds.pdf; ComponentLink3Description: Packaging Specification; ComponentLink3URL: http://sg.renesas.com/media/products/common_info/package/pdf/diode/code/pxsf0002za_a.pdf
footprint PXSF0002ZA-A (SOD, 2-Flat Leads, Body 0.6x0.8x0.5mm, Renesas Recommended)
signal-integrity model RKZ2.4BKL
pins: 1 K, 2 A

## RKZ2.4BKU
designator D?
Silicon Planar Zener Diode for Stabilized Power Supply; Published: 12-Feb-2010; DatasheetVersion: Rev.1.00, Jul-2009; PackageVersion: Jul-2009; PackageReference: PUSF0002ZD-A; Publisher: Altium Limited; PackageDescription: 2-Pin Plastic Small Outline Diode, Flat Leads, Body 1.3 x 1.9 mm (TURP-FM); ComponentLink1Description: Manufacturer Link; ComponentLink1URL: http://sg.renesas.com/fmwk.jsp?cnt=diode_landing.jsp&fp=/products/discrete/diodes/; ComponentLink2Description: Datasheet; ComponentLink2URL: http://documentation.renesas.com/eng/products/diode/rej03g1771_rkz_kuds.pdf; ComponentLink3Description: Packaging Specification; ComponentLink3URL: http://sg.renesas.com/media/products/common_info/package/pdf/diode/code/pusf0002zd_a.pdf
footprint PUSF0002ZD-A (SOD, 2-Flat Leads, Body 1.3x1.9x0.65mm, Renesas Recommended)
signal-integrity model RKZ2.4BKU
pins: 1 K, 2 A

## RKZ2.7AKU
designator D?
Silicon Planar Zener Diode for Stabilized Power Supply; Published: 12-Feb-2010; DatasheetVersion: Rev.1.00, Jul-2009; PackageVersion: Jul-2009; PackageReference: PUSF0002ZD-A; Publisher: Altium Limited; PackageDescription: 2-Pin Plastic Small Outline Diode, Flat Leads, Body 1.3 x 1.9 mm (TURP-FM); ComponentLink1Description: Manufacturer Link; ComponentLink1URL: http://sg.renesas.com/fmwk.jsp?cnt=diode_landing.jsp&fp=/products/discrete/diodes/; ComponentLink2Description: Datasheet; ComponentLink2URL: http://documentation.renesas.com/eng/products/diode/rej03g1771_rkz_kuds.pdf; ComponentLink3Description: Packaging Specification; ComponentLink3URL: http://sg.renesas.com/media/products/common_info/package/pdf/diode/code/pusf0002zd_a.pdf
footprint PUSF0002ZD-A (SOD, 2-Flat Leads, Body 1.3x1.9x0.65mm, Renesas Recommended)
signal-integrity model RKZ2.7AKU
pins: 1 K, 2 A

## RKZ2.7B2KG
designator D?
Silicon Planar Zener Diode for Surge Absorption and Stabilizer; Published: 12-Feb-2010; DatasheetVersion: Rev.3.00, Feb-2009; PackageVersion: Sep-2005; PackageReference: PTSP0002ZA-A; Publisher: Altium Limited; PackageDescription: 2-Pin SC-76 Package, 1.7 x 1.3 mm Body; Code_JEITA: SC-76A; ComponentLink1Description: Manufacturer Link; ComponentLink1URL: http://sg.renesas.com/fmwk.jsp?cnt=diode_landing.jsp&fp=/products/discrete/diodes/; ComponentLink2Description: Datasheet; ComponentLink2URL: http://documentation.renesas.com/eng/products/diode/rej03g1512_rkz_kg.pdf; ComponentLink3Description: Packaging Specification; ComponentLink3URL: http://sg.renesas.com/media/products/common_info/package/pdf/diode/code/ptsp0002za_a.pdf
footprint PTSP0002ZA-A (SC-76; 2 Leads; Body 1.7x1.3mm, Renesas Recommended)
signal-integrity model RKZ2.7B2KG
pins: 1 K, 2 A

## RKZ2.7B2KJ
designator D?
Silicon Planar Zener Diode for Surge Absorption and Stabilizer; Published: 12-Feb-2010; DatasheetVersion: Rev.1.00, Sep-2007; PackageVersion: Oct-2006; PackageReference: PWSF0002ZA-A; Publisher: Altium Limited; PackageDescription: 2-Pin Plastic Small Outline Diode, Flat Leads, Body 0.8 x 1.2 mm (UFP); Code_JEITA: SC-79; ComponentLink1Description: Manufacturer Link; ComponentLink1URL: http://sg.renesas.com/fmwk.jsp?cnt=diode_landing.jsp&fp=/products/discrete/diodes/; ComponentLink2Description: Datasheet; ComponentLink2URL: http://documentation.renesas.com/eng/products/diode/rej03g1588_rkz_kjds.pdf; ComponentLink3Description: Packaging Specification; ComponentLink3URL: http://sg.renesas.com/media/products/common_info/package/pdf/diode/code/pwsf0002za_a.pdf
footprint PWSF0002ZA-A (SOD, 2-Flat Leads, Body 0.8x1.2x0.7mm, Renesas Recommended)
signal-integrity model RKZ2.7B2KJ
pins: 1 K, 2 A

## RKZ2.7B2KK
designator D?
Silicon Planar Zener Diode for Surge Absorption and Stabilizer; Published: 12-Feb-2010; DatasheetVersion: Rev.1.00, Mar-2007; PackageVersion: Oct-2006; PackageReference: PUSF0002ZB-A; Publisher: Altium Limited; PackageDescription: 2-Pin Plastic Small Outline Diode, Flat Leads, Body 0.6 x 1.0 mm (SFP); ComponentLink1Description: Manufacturer Link; ComponentLink1URL: http://sg.renesas.com/fmwk.jsp?cnt=diode_landing.jsp&fp=/products/discrete/diodes/; ComponentLink2Description: Datasheet; ComponentLink2URL: http://documentation.renesas.com/eng/products/diode/rej03g1518_rkz_kkds.pdf; ComponentLink3Description: Packaging Specification; ComponentLink3URL: http://sg.renesas.com/media/products/common_info/package/pdf/diode/code/pusf0002zb_a.pdf
footprint PUSF0002ZB-A (SOD, 2-Flat Leads, Body 0.6x1.0x0.55mm, Renesas Recommended)
signal-integrity model RKZ2.7B2KK
pins: 1 K, 2 A